# Altium integrated library Linear Technology Power Management System Supervisor, Monitor and Control.IntLib: 1611 symbols (part 84 of 100)
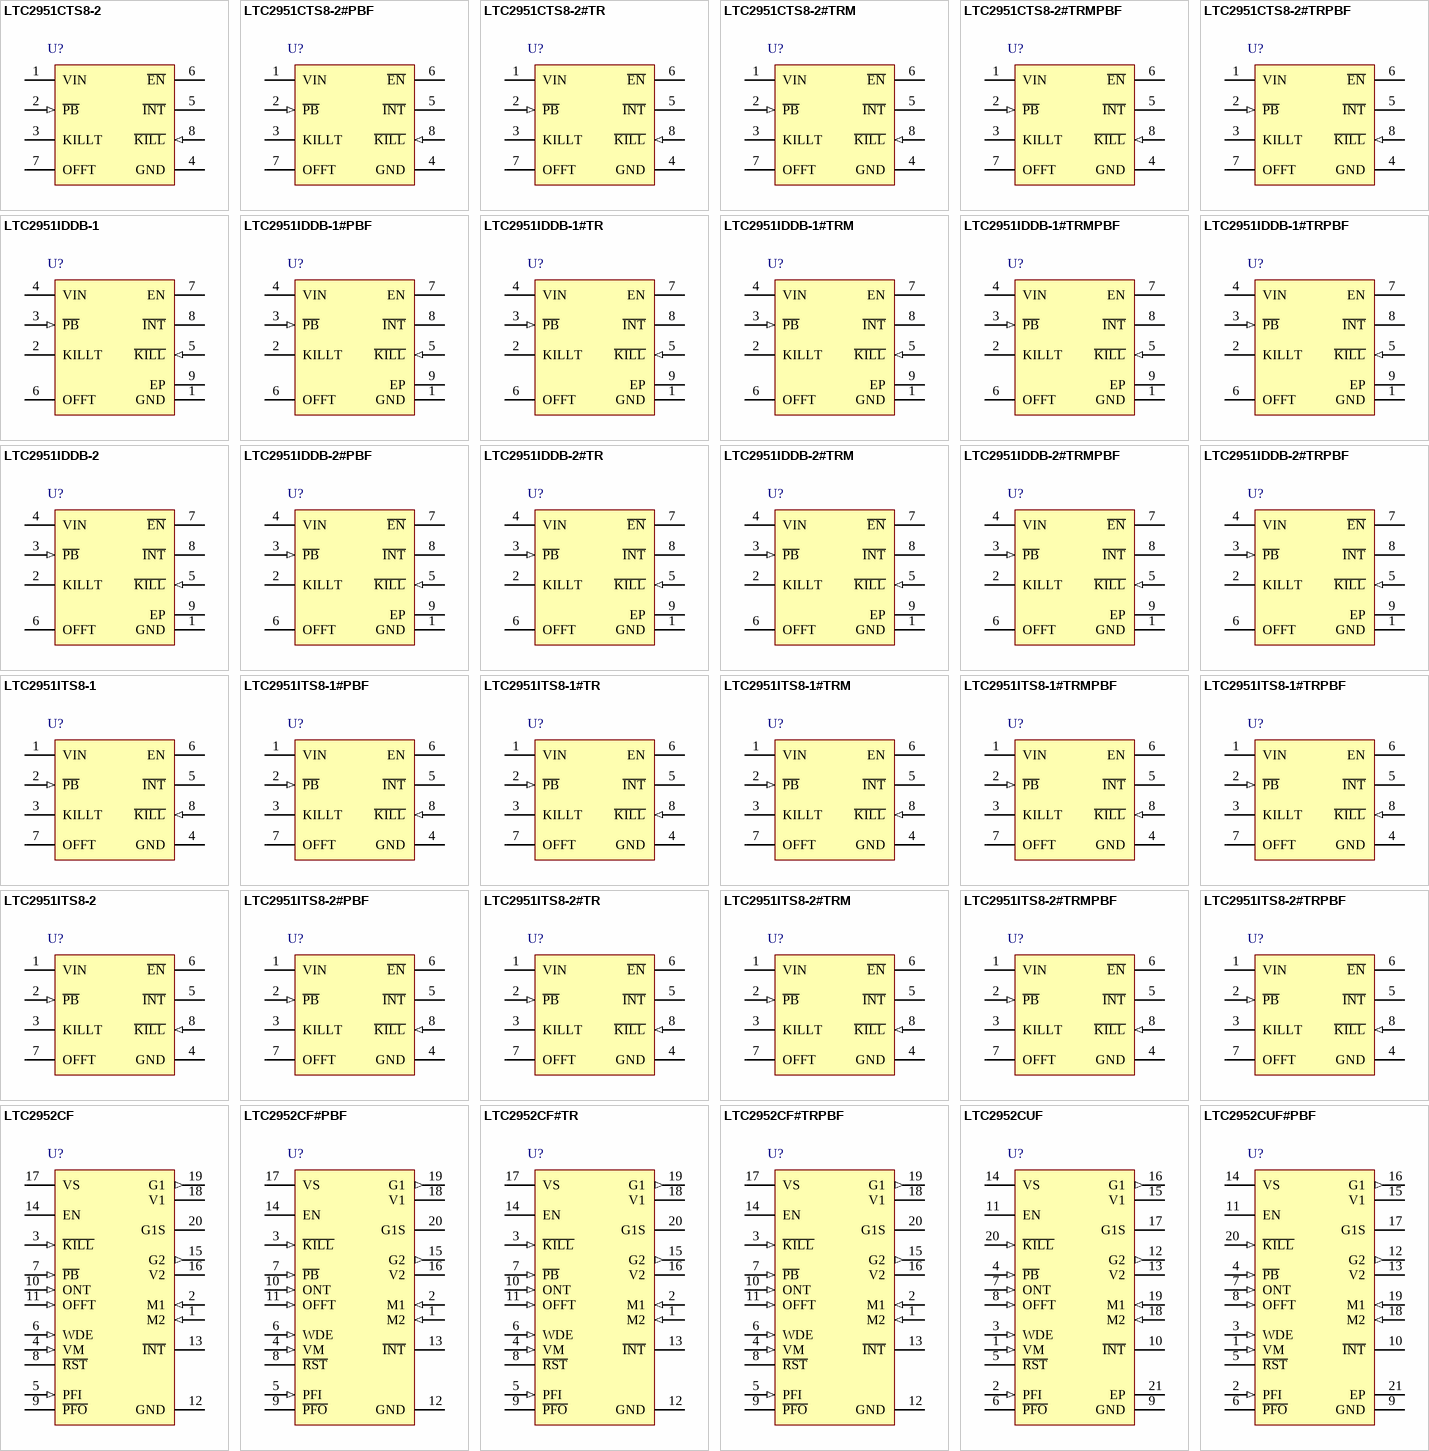
[diagram p128: symbols LTC2951CTS8-2 to LTC2952CUF#PBF]

## LTC2951IDDB-1
designator U?
Pushbutton On / Off  Controller, 8-pin SON (DDB-8), -40 to 85 degC; Manufacturer: Linear Technology; PartNumber: LTC2951IDDB-1; Number of Supplies(#): 1; DatasheetVersion: Rev. B; PackageVersion: Rev. B, 06/2010; PackageReference: DDB-8; PackageDescription: 8-Pin Plastic DFN, Body 3 x 2 mm, Pitch 0.5 mm; RoHS: FALSE; Mounting Technology: Surface Mount; Code_JEDEC: MO-229; ComponentLink1Description: Manufacturer URL; ComponentLink1URL: http://www.linear.com/; ComponentLink2Description: Datasheet; ComponentLink2URL: http://cds.linear.com/docs/en/datasheet/295112fb.pdf; ComponentLink3Description: Package Specification; ComponentLink3URL: http://cds.linear.com/docs/en/packaging/DFN_8_05-08-1702.pdf
footprint LT-DDB-8_V (SON, 8-Leads, Body 3x2mm, Pitch 0.5mm, Thermal Pad 2.2x0.61mm)
pins: 1 GND (power) "Device Ground.", 2 KILLT "Additional, Adjustable K\I\L\L\ Turn-Off Delay Input (tK\I\L\L\, OFF DELAY, ADDITIONAL). A capacitor to ground provides additional delay time (beyond the internal default 128ms, tK\I\L\L\, OFF DELAY) from I\N\T\ falling to (See Datasheet)", 3 ~{PB} (in) "Pushbutton Input. Connecting P\B\ to ground through a momentary switch provides on/off control via the EN/E\N\ pin. An internal 100k pull-up resistor connects to an internal 1.9V bias voltage. The rugged P\B\ input can be (See Datasheet)", 4 VIN (power) "Power Supply Input: 2.7V to 26.4V.", 5 ~{KILL} (in) "K\I\L\L\ Input. Forcing K\I\L\L\ low releases the enable output. During system turn-on, this pin is blanked by a 512ms internal timer (tK\I\L\L\, ON BLANK) to allow the system to pull K\I\L\L\ high. This pin has an accurate (See Datasheet)", 6 OFFT "Additional Adjustable Turn-Off Time Input (tOFFT). A capacitor to ground determines the additional time (beyond the internal default 32ms, tDB, OFF) that the P\B\ pin must be held low before initiating a powerdown sequence (See Datasheet)", 7 EN (oc) "Open-Drain Enable Output. This pin is intended to enable system power. E\N\ is asserted low after a valid P\B\ turn-on event (tDB, ON). E\N\ releases high if: a) K\I\L\L\ is not driven high within 512ms of the initial valid (See Datasheet)", 8 ~{INT} (oc) "Open-Drain Interrupt Output. After a pushbutton turn-off event is detected (tDB, OFF + tOFFT), the LTC2951 interrupts the system (uP) by bringing the I\N\T\ pin low. Once the system finishes its power-down and housekeeping (See Datasheet)", 9 EP "Exposed Pad may be left open or connected to device ground."

## LTC2951IDDB-1#PBF
designator U?
Pushbutton On / Off  Controller, 8-pin SON (DDB-8), -40 to 85 degC, Pb-Free; Manufacturer: Linear Technology; PartNumber: LTC2951IDDB-1#PBF; Number of Supplies(#): 1; DatasheetVersion: Rev. B; PackageVersion: Rev. B, 06/2010; PackageReference: DDB-8; PackageDescription: 8-Pin Plastic DFN, Body 3 x 2 mm, Pitch 0.5 mm; RoHS: TRUE; Mounting Technology: Surface Mount; Code_JEDEC: MO-229; ComponentLink1Description: Manufacturer URL; ComponentLink1URL: http://www.linear.com/; ComponentLink2Description: Datasheet; ComponentLink2URL: http://cds.linear.com/docs/en/datasheet/295112fb.pdf; ComponentLink3Description: Package Specification; ComponentLink3URL: http://cds.linear.com/docs/en/packaging/DFN_8_05-08-1702.pdf
footprint LT-DDB-8_V (SON, 8-Leads, Body 3x2mm, Pitch 0.5mm, Thermal Pad 2.2x0.61mm)
pins: 1 GND (power) "Device Ground.", 2 KILLT "Additional, Adjustable K\I\L\L\ Turn-Off Delay Input (tK\I\L\L\, OFF DELAY, ADDITIONAL). A capacitor to ground provides additional delay time (beyond the internal default 128ms, tK\I\L\L\, OFF DELAY) from I\N\T\ falling to (See Datasheet)", 3 ~{PB} (in) "Pushbutton Input. Connecting P\B\ to ground through a momentary switch provides on/off control via the EN/E\N\ pin. An internal 100k pull-up resistor connects to an internal 1.9V bias voltage. The rugged P\B\ input can be (See Datasheet)", 4 VIN (power) "Power Supply Input: 2.7V to 26.4V.", 5 ~{KILL} (in) "K\I\L\L\ Input. Forcing K\I\L\L\ low releases the enable output. During system turn-on, this pin is blanked by a 512ms internal timer (tK\I\L\L\, ON BLANK) to allow the system to pull K\I\L\L\ high. This pin has an accurate (See Datasheet)", 6 OFFT "Additional Adjustable Turn-Off Time Input (tOFFT). A capacitor to ground determines the additional time (beyond the internal default 32ms, tDB, OFF) that the P\B\ pin must be held low before initiating a powerdown sequence (See Datasheet)", 7 EN (oc) "Open-Drain Enable Output. This pin is intended to enable system power. E\N\ is asserted low after a valid P\B\ turn-on event (tDB, ON). E\N\ releases high if: a) K\I\L\L\ is not driven high within 512ms of the initial valid (See Datasheet)", 8 ~{INT} (oc) "Open-Drain Interrupt Output. After a pushbutton turn-off event is detected (tDB, OFF + tOFFT), the LTC2951 interrupts the system (uP) by bringing the I\N\T\ pin low. Once the system finishes its power-down and housekeeping (See Datasheet)", 9 EP "Exposed Pad may be left open or connected to device ground."

## LTC2951IDDB-1#TR
designator U?
Pushbutton On / Off  Controller, 8-pin SON (DDB-8), -40 to 85 degC, Tape and Reel; Manufacturer: Linear Technology; PartNumber: LTC2951IDDB-1#TR; Number of Supplies(#): 1; DatasheetVersion: Rev. B; PackageVersion: Rev. B, 06/2010; PackageReference: DDB-8; PackageDescription: 8-Pin Plastic DFN, Body 3 x 2 mm, Pitch 0.5 mm; Packing: Tape and Reel; RoHS: FALSE; Mounting Technology: Surface Mount; Code_JEDEC: MO-229; ComponentLink1Description: Manufacturer URL; ComponentLink1URL: http://www.linear.com/; ComponentLink2Description: Datasheet; ComponentLink2URL: http://cds.linear.com/docs/en/datasheet/295112fb.pdf; ComponentLink3Description: Package Specification; ComponentLink3URL: http://cds.linear.com/docs/en/packaging/DFN_8_05-08-1702.pdf
footprint LT-DDB-8_V (SON, 8-Leads, Body 3x2mm, Pitch 0.5mm, Thermal Pad 2.2x0.61mm)
pins: 1 GND (power) "Device Ground.", 2 KILLT "Additional, Adjustable K\I\L\L\ Turn-Off Delay Input (tK\I\L\L\, OFF DELAY, ADDITIONAL). A capacitor to ground provides additional delay time (beyond the internal default 128ms, tK\I\L\L\, OFF DELAY) from I\N\T\ falling to (See Datasheet)", 3 ~{PB} (in) "Pushbutton Input. Connecting P\B\ to ground through a momentary switch provides on/off control via the EN/E\N\ pin. An internal 100k pull-up resistor connects to an internal 1.9V bias voltage. The rugged P\B\ input can be (See Datasheet)", 4 VIN (power) "Power Supply Input: 2.7V to 26.4V.", 5 ~{KILL} (in) "K\I\L\L\ Input. Forcing K\I\L\L\ low releases the enable output. During system turn-on, this pin is blanked by a 512ms internal timer (tK\I\L\L\, ON BLANK) to allow the system to pull K\I\L\L\ high. This pin has an accurate (See Datasheet)", 6 OFFT "Additional Adjustable Turn-Off Time Input (tOFFT). A capacitor to ground determines the additional time (beyond the internal default 32ms, tDB, OFF) that the P\B\ pin must be held low before initiating a powerdown sequence (See Datasheet)", 7 EN (oc) "Open-Drain Enable Output. This pin is intended to enable system power. E\N\ is asserted low after a valid P\B\ turn-on event (tDB, ON). E\N\ releases high if: a) K\I\L\L\ is not driven high within 512ms of the initial valid (See Datasheet)", 8 ~{INT} (oc) "Open-Drain Interrupt Output. After a pushbutton turn-off event is detected (tDB, OFF + tOFFT), the LTC2951 interrupts the system (uP) by bringing the I\N\T\ pin low. Once the system finishes its power-down and housekeeping (See Datasheet)", 9 EP "Exposed Pad may be left open or connected to device ground."

## LTC2951IDDB-1#TRM
designator U?
Pushbutton On / Off  Controller, 8-pin SON (DDB-8), -40 to 85 degC, Mini Tape and Reel; Manufacturer: Linear Technology; PartNumber: LTC2951IDDB-1#TRM; Number of Supplies(#): 1; DatasheetVersion: Rev. B; PackageVersion: Rev. B, 06/2010; PackageReference: DDB-8; PackageDescription: 8-Pin Plastic DFN, Body 3 x 2 mm, Pitch 0.5 mm; Packing: Mini Tape and Reel; RoHS: FALSE; Mounting Technology: Surface Mount; Code_JEDEC: MO-229; ComponentLink1Description: Manufacturer URL; ComponentLink1URL: http://www.linear.com/; ComponentLink2Description: Datasheet; ComponentLink2URL: http://cds.linear.com/docs/en/datasheet/295112fb.pdf; ComponentLink3Description: Package Specification; ComponentLink3URL: http://cds.linear.com/docs/en/packaging/DFN_8_05-08-1702.pdf
footprint LT-DDB-8_V (SON, 8-Leads, Body 3x2mm, Pitch 0.5mm, Thermal Pad 2.2x0.61mm)
pins: 1 GND (power) "Device Ground.", 2 KILLT "Additional, Adjustable K\I\L\L\ Turn-Off Delay Input (tK\I\L\L\, OFF DELAY, ADDITIONAL). A capacitor to ground provides additional delay time (beyond the internal default 128ms, tK\I\L\L\, OFF DELAY) from I\N\T\ falling to (See Datasheet)", 3 ~{PB} (in) "Pushbutton Input. Connecting P\B\ to ground through a momentary switch provides on/off control via the EN/E\N\ pin. An internal 100k pull-up resistor connects to an internal 1.9V bias voltage. The rugged P\B\ input can be (See Datasheet)", 4 VIN (power) "Power Supply Input: 2.7V to 26.4V.", 5 ~{KILL} (in) "K\I\L\L\ Input. Forcing K\I\L\L\ low releases the enable output. During system turn-on, this pin is blanked by a 512ms internal timer (tK\I\L\L\, ON BLANK) to allow the system to pull K\I\L\L\ high. This pin has an accurate (See Datasheet)", 6 OFFT "Additional Adjustable Turn-Off Time Input (tOFFT). A capacitor to ground determines the additional time (beyond the internal default 32ms, tDB, OFF) that the P\B\ pin must be held low before initiating a powerdown sequence (See Datasheet)", 7 EN (oc) "Open-Drain Enable Output. This pin is intended to enable system power. E\N\ is asserted low after a valid P\B\ turn-on event (tDB, ON). E\N\ releases high if: a) K\I\L\L\ is not driven high within 512ms of the initial valid (See Datasheet)", 8 ~{INT} (oc) "Open-Drain Interrupt Output. After a pushbutton turn-off event is detected (tDB, OFF + tOFFT), the LTC2951 interrupts the system (uP) by bringing the I\N\T\ pin low. Once the system finishes its power-down and housekeeping (See Datasheet)", 9 EP "Exposed Pad may be left open or connected to device ground."

## LTC2951IDDB-1#TRMPBF
designator U?
Pushbutton On / Off  Controller, 8-pin SON (DDB-8), -40 to 85 degC, Pb-Free, Mini Tape and Reel; Manufacturer: Linear Technology; PartNumber: LTC2951IDDB-1#TRMPBF; Number of Supplies(#): 1; DatasheetVersion: Rev. B; PackageVersion: Rev. B, 06/2010; PackageReference: DDB-8; PackageDescription: 8-Pin Plastic DFN, Body 3 x 2 mm, Pitch 0.5 mm; Supplier 1: Digi-Key; Supplier Part Number 1: LTC2951IDDB-1#TRMPBFTR-ND; Supplier 2: Digi-Key; Supplier Part Number 2: LTC2951IDDB-1#TRMPBFCT-ND; Supplier 3: Digi-Key; Supplier Part Number 3: LTC2951IDDB-1#TRMPBFDKR-ND; Supplier 4: Farnell; Supplier Part Number 4: 1673546; Supplier 5: Newark; Supplier Part Number 5: 12P6561; Packing: Mini Tape and Reel; RoHS: TRUE; Mounting Technology: Surface Mount; Code_JEDEC: MO-229; ComponentLink1Description: Manufacturer URL; ComponentLink1URL: http://www.linear.com/; ComponentLink2Description: Datasheet; ComponentLink2URL: http://cds.linear.com/docs/en/datasheet/295112fb.pdf; ComponentLink3Description: Package Specification; ComponentLink3URL: http://cds.linear.com/docs/en/packaging/DFN_8_05-08-1702.pdf
footprint LT-DDB-8_V (SON, 8-Leads, Body 3x2mm, Pitch 0.5mm, Thermal Pad 2.2x0.61mm)
pins: 1 GND (power) "Device Ground.", 2 KILLT "Additional, Adjustable K\I\L\L\ Turn-Off Delay Input (tK\I\L\L\, OFF DELAY, ADDITIONAL). A capacitor to ground provides additional delay time (beyond the internal default 128ms, tK\I\L\L\, OFF DELAY) from I\N\T\ falling to (See Datasheet)", 3 ~{PB} (in) "Pushbutton Input. Connecting P\B\ to ground through a momentary switch provides on/off control via the EN/E\N\ pin. An internal 100k pull-up resistor connects to an internal 1.9V bias voltage. The rugged P\B\ input can be (See Datasheet)", 4 VIN (power) "Power Supply Input: 2.7V to 26.4V.", 5 ~{KILL} (in) "K\I\L\L\ Input. Forcing K\I\L\L\ low releases the enable output. During system turn-on, this pin is blanked by a 512ms internal timer (tK\I\L\L\, ON BLANK) to allow the system to pull K\I\L\L\ high. This pin has an accurate (See Datasheet)", 6 OFFT "Additional Adjustable Turn-Off Time Input (tOFFT). A capacitor to ground determines the additional time (beyond the internal default 32ms, tDB, OFF) that the P\B\ pin must be held low before initiating a powerdown sequence (See Datasheet)", 7 EN (oc) "Open-Drain Enable Output. This pin is intended to enable system power. E\N\ is asserted low after a valid P\B\ turn-on event (tDB, ON). E\N\ releases high if: a) K\I\L\L\ is not driven high within 512ms of the initial valid (See Datasheet)", 8 ~{INT} (oc) "Open-Drain Interrupt Output. After a pushbutton turn-off event is detected (tDB, OFF + tOFFT), the LTC2951 interrupts the system (uP) by bringing the I\N\T\ pin low. Once the system finishes its power-down and housekeeping (See Datasheet)", 9 EP "Exposed Pad may be left open or connected to device ground."

## LTC2951IDDB-1#TRPBF
designator U?
Pushbutton On / Off  Controller, 8-pin SON (DDB-8), -40 to 85 degC, Pb-Free, Tape and Reel; Manufacturer: Linear Technology; PartNumber: LTC2951IDDB-1#TRPBF; Number of Supplies(#): 1; DatasheetVersion: Rev. B; PackageVersion: Rev. B, 06/2010; PackageReference: DDB-8; PackageDescription: 8-Pin Plastic DFN, Body 3 x 2 mm, Pitch 0.5 mm; Supplier 1: Digi-Key; Supplier Part Number 1: LTC2951IDDB-1#TRPBF-ND; Packing: Tape and Reel; RoHS: TRUE; Mounting Technology: Surface Mount; Code_JEDEC: MO-229; ComponentLink1Description: Manufacturer URL; ComponentLink1URL: http://www.linear.com/; ComponentLink2Description: Datasheet; ComponentLink2URL: http://cds.linear.com/docs/en/datasheet/295112fb.pdf; ComponentLink3Description: Package Specification; ComponentLink3URL: http://cds.linear.com/docs/en/packaging/DFN_8_05-08-1702.pdf
footprint LT-DDB-8_V (SON, 8-Leads, Body 3x2mm, Pitch 0.5mm, Thermal Pad 2.2x0.61mm)
pins: 1 GND (power) "Device Ground.", 2 KILLT "Additional, Adjustable K\I\L\L\ Turn-Off Delay Input (tK\I\L\L\, OFF DELAY, ADDITIONAL). A capacitor to ground provides additional delay time (beyond the internal default 128ms, tK\I\L\L\, OFF DELAY) from I\N\T\ falling to (See Datasheet)", 3 ~{PB} (in) "Pushbutton Input. Connecting P\B\ to ground through a momentary switch provides on/off control via the EN/E\N\ pin. An internal 100k pull-up resistor connects to an internal 1.9V bias voltage. The rugged P\B\ input can be (See Datasheet)", 4 VIN (power) "Power Supply Input: 2.7V to 26.4V.", 5 ~{KILL} (in) "K\I\L\L\ Input. Forcing K\I\L\L\ low releases the enable output. During system turn-on, this pin is blanked by a 512ms internal timer (tK\I\L\L\, ON BLANK) to allow the system to pull K\I\L\L\ high. This pin has an accurate (See Datasheet)", 6 OFFT "Additional Adjustable Turn-Off Time Input (tOFFT). A capacitor to ground determines the additional time (beyond the internal default 32ms, tDB, OFF) that the P\B\ pin must be held low before initiating a powerdown sequence (See Datasheet)", 7 EN (oc) "Open-Drain Enable Output. This pin is intended to enable system power. E\N\ is asserted low after a valid P\B\ turn-on event (tDB, ON). E\N\ releases high if: a) K\I\L\L\ is not driven high within 512ms of the initial valid (See Datasheet)", 8 ~{INT} (oc) "Open-Drain Interrupt Output. After a pushbutton turn-off event is detected (tDB, OFF + tOFFT), the LTC2951 interrupts the system (uP) by bringing the I\N\T\ pin low. Once the system finishes its power-down and housekeeping (See Datasheet)", 9 EP "Exposed Pad may be left open or connected to device ground."

## LTC2951IDDB-2
designator U?
Pushbutton On / Off  Controller, 8-pin SON (DDB-8), -40 to 85 degC; Manufacturer: Linear Technology; PartNumber: LTC2951IDDB-2; Number of Supplies(#): 1; DatasheetVersion: Rev. B; PackageVersion: Rev. B, 06/2010; PackageReference: DDB-8; PackageDescription: 8-Pin Plastic DFN, Body 3 x 2 mm, Pitch 0.5 mm; RoHS: FALSE; Mounting Technology: Surface Mount; Code_JEDEC: MO-229; ComponentLink1Description: Manufacturer URL; ComponentLink1URL: http://www.linear.com/; ComponentLink2Description: Datasheet; ComponentLink2URL: http://cds.linear.com/docs/en/datasheet/295112fb.pdf; ComponentLink3Description: Package Specification; ComponentLink3URL: http://cds.linear.com/docs/en/packaging/DFN_8_05-08-1702.pdf
footprint LT-DDB-8_V (SON, 8-Leads, Body 3x2mm, Pitch 0.5mm, Thermal Pad 2.2x0.61mm)
pins: 1 GND (power) "Device Ground.", 2 KILLT "Additional, Adjustable K\I\L\L\ Turn-Off Delay Input (tK\I\L\L\, OFF DELAY, ADDITIONAL). A capacitor to ground provides additional delay time (beyond the internal default 128ms, tK\I\L\L\, OFF DELAY) from I\N\T\ falling to (See Datasheet)", 3 ~{PB} (in) "Pushbutton Input. Connecting P\B\ to ground through a momentary switch provides on/off control via the EN/E\N\ pin. An internal 100k pull-up resistor connects to an internal 1.9V bias voltage. The rugged P\B\ input can be (See Datasheet)", 4 VIN (power) "Power Supply Input: 2.7V to 26.4V.", 5 ~{KILL} (in) "K\I\L\L\ Input. Forcing K\I\L\L\ low releases the enable output. During system turn-on, this pin is blanked by a 512ms internal timer (tK\I\L\L\, ON BLANK) to allow the system to pull K\I\L\L\ high. This pin has an accurate (See Datasheet)", 6 OFFT "Additional Adjustable Turn-Off Time Input (tOFFT). A capacitor to ground determines the additional time (beyond the internal default 32ms, tDB, OFF) that the P\B\ pin must be held low before initiating a powerdown sequence (See Datasheet)", 7 ~{EN} (oc) "Open-Drain Enable Output. This pin is intended to enable system power. E\N\ is asserted low after a valid P\B\ turn-on event (tDB, ON). E\N\ releases high if: a) K\I\L\L\ is not driven high within 512ms of the initial valid (See Datasheet)", 8 ~{INT} (oc) "Open-Drain Interrupt Output. After a pushbutton turn-off event is detected (tDB, OFF + tOFFT), the LTC2951 interrupts the system (uP) by bringing the I\N\T\ pin low. Once the system finishes its power-down and housekeeping (See Datasheet)", 9 EP "Exposed Pad may be left open or connected to device ground."

## LTC2951IDDB-2#PBF
designator U?
Pushbutton On / Off  Controller, 8-pin SON (DDB-8), -40 to 85 degC, Pb-Free; Manufacturer: Linear Technology; PartNumber: LTC2951IDDB-2#PBF; Number of Supplies(#): 1; DatasheetVersion: Rev. B; PackageVersion: Rev. B, 06/2010; PackageReference: DDB-8; PackageDescription: 8-Pin Plastic DFN, Body 3 x 2 mm, Pitch 0.5 mm; RoHS: TRUE; Mounting Technology: Surface Mount; Code_JEDEC: MO-229; ComponentLink1Description: Manufacturer URL; ComponentLink1URL: http://www.linear.com/; ComponentLink2Description: Datasheet; ComponentLink2URL: http://cds.linear.com/docs/en/datasheet/295112fb.pdf; ComponentLink3Description: Package Specification; ComponentLink3URL: http://cds.linear.com/docs/en/packaging/DFN_8_05-08-1702.pdf
footprint LT-DDB-8_V (SON, 8-Leads, Body 3x2mm, Pitch 0.5mm, Thermal Pad 2.2x0.61mm)
pins: 1 GND (power) "Device Ground.", 2 KILLT "Additional, Adjustable K\I\L\L\ Turn-Off Delay Input (tK\I\L\L\, OFF DELAY, ADDITIONAL). A capacitor to ground provides additional delay time (beyond the internal default 128ms, tK\I\L\L\, OFF DELAY) from I\N\T\ falling to (See Datasheet)", 3 ~{PB} (in) "Pushbutton Input. Connecting P\B\ to ground through a momentary switch provides on/off control via the EN/E\N\ pin. An internal 100k pull-up resistor connects to an internal 1.9V bias voltage. The rugged P\B\ input can be (See Datasheet)", 4 VIN (power) "Power Supply Input: 2.7V to 26.4V.", 5 ~{KILL} (in) "K\I\L\L\ Input. Forcing K\I\L\L\ low releases the enable output. During system turn-on, this pin is blanked by a 512ms internal timer (tK\I\L\L\, ON BLANK) to allow the system to pull K\I\L\L\ high. This pin has an accurate (See Datasheet)", 6 OFFT "Additional Adjustable Turn-Off Time Input (tOFFT). A capacitor to ground determines the additional time (beyond the internal default 32ms, tDB, OFF) that the P\B\ pin must be held low before initiating a powerdown sequence (See Datasheet)", 7 ~{EN} (oc) "Open-Drain Enable Output. This pin is intended to enable system power. E\N\ is asserted low after a valid P\B\ turn-on event (tDB, ON). E\N\ releases high if: a) K\I\L\L\ is not driven high within 512ms of the initial valid (See Datasheet)", 8 ~{INT} (oc) "Open-Drain Interrupt Output. After a pushbutton turn-off event is detected (tDB, OFF + tOFFT), the LTC2951 interrupts the system (uP) by bringing the I\N\T\ pin low. Once the system finishes its power-down and housekeeping (See Datasheet)", 9 EP "Exposed Pad may be left open or connected to device ground."

## LTC2951IDDB-2#TR
designator U?
Pushbutton On / Off  Controller, 8-pin SON (DDB-8), -40 to 85 degC, Tape and Reel; Manufacturer: Linear Technology; PartNumber: LTC2951IDDB-2#TR; Number of Supplies(#): 1; DatasheetVersion: Rev. B; PackageVersion: Rev. B, 06/2010; PackageReference: DDB-8; PackageDescription: 8-Pin Plastic DFN, Body 3 x 2 mm, Pitch 0.5 mm; Packing: Tape and Reel; RoHS: FALSE; Mounting Technology: Surface Mount; Code_JEDEC: MO-229; ComponentLink1Description: Manufacturer URL; ComponentLink1URL: http://www.linear.com/; ComponentLink2Description: Datasheet; ComponentLink2URL: http://cds.linear.com/docs/en/datasheet/295112fb.pdf; ComponentLink3Description: Package Specification; ComponentLink3URL: http://cds.linear.com/docs/en/packaging/DFN_8_05-08-1702.pdf
footprint LT-DDB-8_V (SON, 8-Leads, Body 3x2mm, Pitch 0.5mm, Thermal Pad 2.2x0.61mm)
pins: 1 GND (power) "Device Ground.", 2 KILLT "Additional, Adjustable K\I\L\L\ Turn-Off Delay Input (tK\I\L\L\, OFF DELAY, ADDITIONAL). A capacitor to ground provides additional delay time (beyond the internal default 128ms, tK\I\L\L\, OFF DELAY) from I\N\T\ falling to (See Datasheet)", 3 ~{PB} (in) "Pushbutton Input. Connecting P\B\ to ground through a momentary switch provides on/off control via the EN/E\N\ pin. An internal 100k pull-up resistor connects to an internal 1.9V bias voltage. The rugged P\B\ input can be (See Datasheet)", 4 VIN (power) "Power Supply Input: 2.7V to 26.4V.", 5 ~{KILL} (in) "K\I\L\L\ Input. Forcing K\I\L\L\ low releases the enable output. During system turn-on, this pin is blanked by a 512ms internal timer (tK\I\L\L\, ON BLANK) to allow the system to pull K\I\L\L\ high. This pin has an accurate (See Datasheet)", 6 OFFT "Additional Adjustable Turn-Off Time Input (tOFFT). A capacitor to ground determines the additional time (beyond the internal default 32ms, tDB, OFF) that the P\B\ pin must be held low before initiating a powerdown sequence (See Datasheet)", 7 ~{EN} (oc) "Open-Drain Enable Output. This pin is intended to enable system power. E\N\ is asserted low after a valid P\B\ turn-on event (tDB, ON). E\N\ releases high if: a) K\I\L\L\ is not driven high within 512ms of the initial valid (See Datasheet)", 8 ~{INT} (oc) "Open-Drain Interrupt Output. After a pushbutton turn-off event is detected (tDB, OFF + tOFFT), the LTC2951 interrupts the system (uP) by bringing the I\N\T\ pin low. Once the system finishes its power-down and housekeeping (See Datasheet)", 9 EP "Exposed Pad may be left open or connected to device ground."

## LTC2951IDDB-2#TRM
designator U?
Pushbutton On / Off  Controller, 8-pin SON (DDB-8), -40 to 85 degC, Mini Tape and Reel; Manufacturer: Linear Technology; PartNumber: LTC2951IDDB-2#TRM; Number of Supplies(#): 1; DatasheetVersion: Rev. B; PackageVersion: Rev. B, 06/2010; PackageReference: DDB-8; PackageDescription: 8-Pin Plastic DFN, Body 3 x 2 mm, Pitch 0.5 mm; Packing: Mini Tape and Reel; RoHS: FALSE; Mounting Technology: Surface Mount; Code_JEDEC: MO-229; ComponentLink1Description: Manufacturer URL; ComponentLink1URL: http://www.linear.com/; ComponentLink2Description: Datasheet; ComponentLink2URL: http://cds.linear.com/docs/en/datasheet/295112fb.pdf; ComponentLink3Description: Package Specification; ComponentLink3URL: http://cds.linear.com/docs/en/packaging/DFN_8_05-08-1702.pdf
footprint LT-DDB-8_V (SON, 8-Leads, Body 3x2mm, Pitch 0.5mm, Thermal Pad 2.2x0.61mm)
pins: 1 GND (power) "Device Ground.", 2 KILLT "Additional, Adjustable K\I\L\L\ Turn-Off Delay Input (tK\I\L\L\, OFF DELAY, ADDITIONAL). A capacitor to ground provides additional delay time (beyond the internal default 128ms, tK\I\L\L\, OFF DELAY) from I\N\T\ falling to (See Datasheet)", 3 ~{PB} (in) "Pushbutton Input. Connecting P\B\ to ground through a momentary switch provides on/off control via the EN/E\N\ pin. An internal 100k pull-up resistor connects to an internal 1.9V bias voltage. The rugged P\B\ input can be (See Datasheet)", 4 VIN (power) "Power Supply Input: 2.7V to 26.4V.", 5 ~{KILL} (in) "K\I\L\L\ Input. Forcing K\I\L\L\ low releases the enable output. During system turn-on, this pin is blanked by a 512ms internal timer (tK\I\L\L\, ON BLANK) to allow the system to pull K\I\L\L\ high. This pin has an accurate (See Datasheet)", 6 OFFT "Additional Adjustable Turn-Off Time Input (tOFFT). A capacitor to ground determines the additional time (beyond the internal default 32ms, tDB, OFF) that the P\B\ pin must be held low before initiating a powerdown sequence (See Datasheet)", 7 ~{EN} (oc) "Open-Drain Enable Output. This pin is intended to enable system power. E\N\ is asserted low after a valid P\B\ turn-on event (tDB, ON). E\N\ releases high if: a) K\I\L\L\ is not driven high within 512ms of the initial valid (See Datasheet)", 8 ~{INT} (oc) "Open-Drain Interrupt Output. After a pushbutton turn-off event is detected (tDB, OFF + tOFFT), the LTC2951 interrupts the system (uP) by bringing the I\N\T\ pin low. Once the system finishes its power-down and housekeeping (See Datasheet)", 9 EP "Exposed Pad may be left open or connected to device ground."

## LTC2951IDDB-2#TRMPBF
designator U?
Pushbutton On / Off  Controller, 8-pin SON (DDB-8), -40 to 85 degC, Pb-Free, Mini Tape and Reel; Manufacturer: Linear Technology; PartNumber: LTC2951IDDB-2#TRMPBF; Number of Supplies(#): 1; DatasheetVersion: Rev. B; PackageVersion: Rev. B, 06/2010; PackageReference: DDB-8; PackageDescription: 8-Pin Plastic DFN, Body 3 x 2 mm, Pitch 0.5 mm; Supplier 1: Digi-Key; Supplier Part Number 1: LTC2951IDDB-2#TRMPBFTR-ND; Supplier 2: Digi-Key; Supplier Part Number 2: LTC2951IDDB-2#TRMPBFCT-ND; Supplier 3: Digi-Key; Supplier Part Number 3: LTC2951IDDB-2#TRMPBFDKR-ND; Supplier 4: Farnell; Supplier Part Number 4: 1673547; Supplier 5: Newark; Supplier Part Number 5: 12P6562; Packing: Mini Tape and Reel; RoHS: TRUE; Mounting Technology: Surface Mount; Code_JEDEC: MO-229; ComponentLink1Description: Manufacturer URL; ComponentLink1URL: http://www.linear.com/; ComponentLink2Description: Datasheet; ComponentLink2URL: http://cds.linear.com/docs/en/datasheet/295112fb.pdf; ComponentLink3Description: Package Specification; ComponentLink3URL: http://cds.linear.com/docs/en/packaging/DFN_8_05-08-1702.pdf
footprint LT-DDB-8_V (SON, 8-Leads, Body 3x2mm, Pitch 0.5mm, Thermal Pad 2.2x0.61mm)
pins: 1 GND (power) "Device Ground.", 2 KILLT "Additional, Adjustable K\I\L\L\ Turn-Off Delay Input (tK\I\L\L\, OFF DELAY, ADDITIONAL). A capacitor to ground provides additional delay time (beyond the internal default 128ms, tK\I\L\L\, OFF DELAY) from I\N\T\ falling to (See Datasheet)", 3 ~{PB} (in) "Pushbutton Input. Connecting P\B\ to ground through a momentary switch provides on/off control via the EN/E\N\ pin. An internal 100k pull-up resistor connects to an internal 1.9V bias voltage. The rugged P\B\ input can be (See Datasheet)", 4 VIN (power) "Power Supply Input: 2.7V to 26.4V.", 5 ~{KILL} (in) "K\I\L\L\ Input. Forcing K\I\L\L\ low releases the enable output. During system turn-on, this pin is blanked by a 512ms internal timer (tK\I\L\L\, ON BLANK) to allow the system to pull K\I\L\L\ high. This pin has an accurate (See Datasheet)", 6 OFFT "Additional Adjustable Turn-Off Time Input (tOFFT). A capacitor to ground determines the additional time (beyond the internal default 32ms, tDB, OFF) that the P\B\ pin must be held low before initiating a powerdown sequence (See Datasheet)", 7 ~{EN} (oc) "Open-Drain Enable Output. This pin is intended to enable system power. E\N\ is asserted low after a valid P\B\ turn-on event (tDB, ON). E\N\ releases high if: a) K\I\L\L\ is not driven high within 512ms of the initial valid (See Datasheet)", 8 ~{INT} (oc) "Open-Drain Interrupt Output. After a pushbutton turn-off event is detected (tDB, OFF + tOFFT), the LTC2951 interrupts the system (uP) by bringing the I\N\T\ pin low. Once the system finishes its power-down and housekeeping (See Datasheet)", 9 EP "Exposed Pad may be left open or connected to device ground."

## LTC2951IDDB-2#TRPBF
designator U?
Pushbutton On / Off  Controller, 8-pin SON (DDB-8), -40 to 85 degC, Pb-Free, Tape and Reel; Manufacturer: Linear Technology; PartNumber: LTC2951IDDB-2#TRPBF; Number of Supplies(#): 1; DatasheetVersion: Rev. B; PackageVersion: Rev. B, 06/2010; PackageReference: DDB-8; PackageDescription: 8-Pin Plastic DFN, Body 3 x 2 mm, Pitch 0.5 mm; Supplier 1: Digi-Key; Supplier Part Number 1: LTC2951IDDB-2#TRPBF-ND; Packing: Tape and Reel; RoHS: TRUE; Mounting Technology: Surface Mount; Code_JEDEC: MO-229; ComponentLink1Description: Manufacturer URL; ComponentLink1URL: http://www.linear.com/; ComponentLink2Description: Datasheet; ComponentLink2URL: http://cds.linear.com/docs/en/datasheet/295112fb.pdf; ComponentLink3Description: Package Specification; ComponentLink3URL: http://cds.linear.com/docs/en/packaging/DFN_8_05-08-1702.pdf
footprint LT-DDB-8_V (SON, 8-Leads, Body 3x2mm, Pitch 0.5mm, Thermal Pad 2.2x0.61mm)
pins: 1 GND (power) "Device Ground.", 2 KILLT "Additional, Adjustable K\I\L\L\ Turn-Off Delay Input (tK\I\L\L\, OFF DELAY, ADDITIONAL). A capacitor to ground provides additional delay time (beyond the internal default 128ms, tK\I\L\L\, OFF DELAY) from I\N\T\ falling to (See Datasheet)", 3 ~{PB} (in) "Pushbutton Input. Connecting P\B\ to ground through a momentary switch provides on/off control via the EN/E\N\ pin. An internal 100k pull-up resistor connects to an internal 1.9V bias voltage. The rugged P\B\ input can be (See Datasheet)", 4 VIN (power) "Power Supply Input: 2.7V to 26.4V.", 5 ~{KILL} (in) "K\I\L\L\ Input. Forcing K\I\L\L\ low releases the enable output. During system turn-on, this pin is blanked by a 512ms internal timer (tK\I\L\L\, ON BLANK) to allow the system to pull K\I\L\L\ high. This pin has an accurate (See Datasheet)", 6 OFFT "Additional Adjustable Turn-Off Time Input (tOFFT). A capacitor to ground determines the additional time (beyond the internal default 32ms, tDB, OFF) that the P\B\ pin must be held low before initiating a powerdown sequence (See Datasheet)", 7 ~{EN} (oc) "Open-Drain Enable Output. This pin is intended to enable system power. E\N\ is asserted low after a valid P\B\ turn-on event (tDB, ON). E\N\ releases high if: a) K\I\L\L\ is not driven high within 512ms of the initial valid (See Datasheet)", 8 ~{INT} (oc) "Open-Drain Interrupt Output. After a pushbutton turn-off event is detected (tDB, OFF + tOFFT), the LTC2951 interrupts the system (uP) by bringing the I\N\T\ pin low. Once the system finishes its power-down and housekeeping (See Datasheet)", 9 EP "Exposed Pad may be left open or connected to device ground."

## LTC2951ITS8-1
designator U?
Pushbutton On / Off  Controller, 8-pin SOT23 (TS8-8), -40 to 85 degC; Manufacturer: Linear Technology; PartNumber: LTC2951ITS8-1; Number of Supplies(#): 1; DatasheetVersion: Rev. B; PackageVersion: Rev. A, 08/2010; PackageReference: TS8-8; PackageDescription: 8-Pin Plastic TSOT-23, Body 2.9 x 1.63 mm, Pitch 0.65 mm; RoHS: FALSE; Mounting Technology: Surface Mount; Code_JEDEC: MO-193; ComponentLink1Description: Manufacturer URL; ComponentLink1URL: http://www.linear.com/; ComponentLink2Description: Datasheet; ComponentLink2URL: http://cds.linear.com/docs/en/datasheet/295112fb.pdf; ComponentLink3Description: Package Specification; ComponentLink3URL: http://cds.linear.com/docs/en/packaging/SOT_8_05-08-1637.pdf
footprint LT-TS8-8-TSOT-23_V (SOT23, 8-Leads, Body 2.9x1.75mm, Pitch 0.65mm)
pins: 1 VIN (power) "Power Supply Input: 2.7V to 26.4V.", 2 ~{PB} (in) "Pushbutton Input. Connecting P\B\ to ground through a momentary switch provides on/off control via the EN/E\N\ pin. An internal 100k pull-up resistor connects to an internal 1.9V bias voltage. The rugged P\B\ input can be (See Datasheet)", 3 KILLT "Additional, Adjustable K\I\L\L\ Turn-Off Delay Input (tK\I\L\L\, OFF DELAY, ADDITIONAL). A capacitor to ground provides additional delay time (beyond the internal default 128ms, tK\I\L\L\, OFF DELAY) from I\N\T\ falling to (See Datasheet)", 4 GND (power) "Device Ground.", 5 ~{INT} (oc) "Open-Drain Interrupt Output. After a pushbutton turn-off event is detected (tDB, OFF + tOFFT), the LTC2951 interrupts the system (uP) by bringing the I\N\T\ pin low. Once the system finishes its power-down and housekeeping (See Datasheet)", 6 EN (oc) "Open-Drain Enable Output. This pin is intended to enable system power. E\N\ is asserted low after a valid P\B\ turn-on event (tDB, ON). E\N\ releases high if: a) K\I\L\L\ is not driven high within 512ms of the initial valid (See Datasheet)", 7 OFFT "Additional Adjustable Turn-Off Time Input (tOFFT). A capacitor to ground determines the additional time (beyond the internal default 32ms, tDB, OFF) that the P\B\ pin must be held low before initiating a powerdown sequence (See Datasheet)", 8 ~{KILL} (in) "K\I\L\L\ Input. Forcing K\I\L\L\ low releases the enable output. During system turn-on, this pin is blanked by a 512ms internal timer (tK\I\L\L\, ON BLANK) to allow the system to pull K\I\L\L\ high. This pin has an accurate (See Datasheet)"

## LTC2951ITS8-1#PBF
designator U?
Pushbutton On / Off  Controller, 8-pin SOT23 (TS8-8), -40 to 85 degC, Pb-Free; Manufacturer: Linear Technology; PartNumber: LTC2951ITS8-1#PBF; Number of Supplies(#): 1; DatasheetVersion: Rev. B; PackageVersion: Rev. A, 08/2010; PackageReference: TS8-8; PackageDescription: 8-Pin Plastic TSOT-23, Body 2.9 x 1.63 mm, Pitch 0.65 mm; Supplier 1: Newark; Supplier Part Number 1: 78T3119; RoHS: TRUE; Mounting Technology: Surface Mount; Code_JEDEC: MO-193; ComponentLink1Description: Manufacturer URL; ComponentLink1URL: http://www.linear.com/; ComponentLink2Description: Datasheet; ComponentLink2URL: http://cds.linear.com/docs/en/datasheet/295112fb.pdf; ComponentLink3Description: Package Specification; ComponentLink3URL: http://cds.linear.com/docs/en/packaging/SOT_8_05-08-1637.pdf
footprint LT-TS8-8-TSOT-23_V (SOT23, 8-Leads, Body 2.9x1.75mm, Pitch 0.65mm)
pins: 1 VIN (power) "Power Supply Input: 2.7V to 26.4V.", 2 ~{PB} (in) "Pushbutton Input. Connecting P\B\ to ground through a momentary switch provides on/off control via the EN/E\N\ pin. An internal 100k pull-up resistor connects to an internal 1.9V bias voltage. The rugged P\B\ input can be (See Datasheet)", 3 KILLT "Additional, Adjustable K\I\L\L\ Turn-Off Delay Input (tK\I\L\L\, OFF DELAY, ADDITIONAL). A capacitor to ground provides additional delay time (beyond the internal default 128ms, tK\I\L\L\, OFF DELAY) from I\N\T\ falling to (See Datasheet)", 4 GND (power) "Device Ground.", 5 ~{INT} (oc) "Open-Drain Interrupt Output. After a pushbutton turn-off event is detected (tDB, OFF + tOFFT), the LTC2951 interrupts the system (uP) by bringing the I\N\T\ pin low. Once the system finishes its power-down and housekeeping (See Datasheet)", 6 EN (oc) "Open-Drain Enable Output. This pin is intended to enable system power. E\N\ is asserted low after a valid P\B\ turn-on event (tDB, ON). E\N\ releases high if: a) K\I\L\L\ is not driven high within 512ms of the initial valid (See Datasheet)", 7 OFFT "Additional Adjustable Turn-Off Time Input (tOFFT). A capacitor to ground determines the additional time (beyond the internal default 32ms, tDB, OFF) that the P\B\ pin must be held low before initiating a powerdown sequence (See Datasheet)", 8 ~{KILL} (in) "K\I\L\L\ Input. Forcing K\I\L\L\ low releases the enable output. During system turn-on, this pin is blanked by a 512ms internal timer (tK\I\L\L\, ON BLANK) to allow the system to pull K\I\L\L\ high. This pin has an accurate (See Datasheet)"

## LTC2951ITS8-1#TR
designator U?
Pushbutton On / Off  Controller, 8-pin SOT23 (TS8-8), -40 to 85 degC, Tape and Reel; Manufacturer: Linear Technology; PartNumber: LTC2951ITS8-1#TR; Number of Supplies(#): 1; DatasheetVersion: Rev. B; PackageVersion: Rev. A, 08/2010; PackageReference: TS8-8; PackageDescription: 8-Pin Plastic TSOT-23, Body 2.9 x 1.63 mm, Pitch 0.65 mm; Packing: Tape and Reel; RoHS: FALSE; Mounting Technology: Surface Mount; Code_JEDEC: MO-193; ComponentLink1Description: Manufacturer URL; ComponentLink1URL: http://www.linear.com/; ComponentLink2Description: Datasheet; ComponentLink2URL: http://cds.linear.com/docs/en/datasheet/295112fb.pdf; ComponentLink3Description: Package Specification; ComponentLink3URL: http://cds.linear.com/docs/en/packaging/SOT_8_05-08-1637.pdf
footprint LT-TS8-8-TSOT-23_V (SOT23, 8-Leads, Body 2.9x1.75mm, Pitch 0.65mm)
pins: 1 VIN (power) "Power Supply Input: 2.7V to 26.4V.", 2 ~{PB} (in) "Pushbutton Input. Connecting P\B\ to ground through a momentary switch provides on/off control via the EN/E\N\ pin. An internal 100k pull-up resistor connects to an internal 1.9V bias voltage. The rugged P\B\ input can be (See Datasheet)", 3 KILLT "Additional, Adjustable K\I\L\L\ Turn-Off Delay Input (tK\I\L\L\, OFF DELAY, ADDITIONAL). A capacitor to ground provides additional delay time (beyond the internal default 128ms, tK\I\L\L\, OFF DELAY) from I\N\T\ falling to (See Datasheet)", 4 GND (power) "Device Ground.", 5 ~{INT} (oc) "Open-Drain Interrupt Output. After a pushbutton turn-off event is detected (tDB, OFF + tOFFT), the LTC2951 interrupts the system (uP) by bringing the I\N\T\ pin low. Once the system finishes its power-down and housekeeping (See Datasheet)", 6 EN (oc) "Open-Drain Enable Output. This pin is intended to enable system power. E\N\ is asserted low after a valid P\B\ turn-on event (tDB, ON). E\N\ releases high if: a) K\I\L\L\ is not driven high within 512ms of the initial valid (See Datasheet)", 7 OFFT "Additional Adjustable Turn-Off Time Input (tOFFT). A capacitor to ground determines the additional time (beyond the internal default 32ms, tDB, OFF) that the P\B\ pin must be held low before initiating a powerdown sequence (See Datasheet)", 8 ~{KILL} (in) "K\I\L\L\ Input. Forcing K\I\L\L\ low releases the enable output. During system turn-on, this pin is blanked by a 512ms internal timer (tK\I\L\L\, ON BLANK) to allow the system to pull K\I\L\L\ high. This pin has an accurate (See Datasheet)"

## LTC2951ITS8-1#TRM
designator U?
Pushbutton On / Off  Controller, 8-pin SOT23 (TS8-8), -40 to 85 degC, Mini Tape and Reel; Manufacturer: Linear Technology; PartNumber: LTC2951ITS8-1#TRM; Number of Supplies(#): 1; DatasheetVersion: Rev. B; PackageVersion: Rev. A, 08/2010; PackageReference: TS8-8; PackageDescription: 8-Pin Plastic TSOT-23, Body 2.9 x 1.63 mm, Pitch 0.65 mm; Packing: Mini Tape and Reel; RoHS: FALSE; Mounting Technology: Surface Mount; Code_JEDEC: MO-193; ComponentLink1Description: Manufacturer URL; ComponentLink1URL: http://www.linear.com/; ComponentLink2Description: Datasheet; ComponentLink2URL: http://cds.linear.com/docs/en/datasheet/295112fb.pdf; ComponentLink3Description: Package Specification; ComponentLink3URL: http://cds.linear.com/docs/en/packaging/SOT_8_05-08-1637.pdf
footprint LT-TS8-8-TSOT-23_V (SOT23, 8-Leads, Body 2.9x1.75mm, Pitch 0.65mm)
pins: 1 VIN (power) "Power Supply Input: 2.7V to 26.4V.", 2 ~{PB} (in) "Pushbutton Input. Connecting P\B\ to ground through a momentary switch provides on/off control via the EN/E\N\ pin. An internal 100k pull-up resistor connects to an internal 1.9V bias voltage. The rugged P\B\ input can be (See Datasheet)", 3 KILLT "Additional, Adjustable K\I\L\L\ Turn-Off Delay Input (tK\I\L\L\, OFF DELAY, ADDITIONAL). A capacitor to ground provides additional delay time (beyond the internal default 128ms, tK\I\L\L\, OFF DELAY) from I\N\T\ falling to (See Datasheet)", 4 GND (power) "Device Ground.", 5 ~{INT} (oc) "Open-Drain Interrupt Output. After a pushbutton turn-off event is detected (tDB, OFF + tOFFT), the LTC2951 interrupts the system (uP) by bringing the I\N\T\ pin low. Once the system finishes its power-down and housekeeping (See Datasheet)", 6 EN (oc) "Open-Drain Enable Output. This pin is intended to enable system power. E\N\ is asserted low after a valid P\B\ turn-on event (tDB, ON). E\N\ releases high if: a) K\I\L\L\ is not driven high within 512ms of the initial valid (See Datasheet)", 7 OFFT "Additional Adjustable Turn-Off Time Input (tOFFT). A capacitor to ground determines the additional time (beyond the internal default 32ms, tDB, OFF) that the P\B\ pin must be held low before initiating a powerdown sequence (See Datasheet)", 8 ~{KILL} (in) "K\I\L\L\ Input. Forcing K\I\L\L\ low releases the enable output. During system turn-on, this pin is blanked by a 512ms internal timer (tK\I\L\L\, ON BLANK) to allow the system to pull K\I\L\L\ high. This pin has an accurate (See Datasheet)"

## LTC2951ITS8-1#TRMPBF
designator U?
Pushbutton On / Off  Controller, 8-pin SOT23 (TS8-8), -40 to 85 degC, Pb-Free, Mini Tape and Reel; Manufacturer: Linear Technology; PartNumber: LTC2951ITS8-1#TRMPBF; Number of Supplies(#): 1; DatasheetVersion: Rev. B; PackageVersion: Rev. A, 08/2010; PackageReference: TS8-8; PackageDescription: 8-Pin Plastic TSOT-23, Body 2.9 x 1.63 mm, Pitch 0.65 mm; Supplier 1: Digi-Key; Supplier Part Number 1: LTC2951ITS8-1#TRMPBFTR-ND; Supplier 2: Digi-Key; Supplier Part Number 2: LTC2951ITS8-1#TRMPBFCT-ND; Supplier 3: Digi-Key; Supplier Part Number 3: LTC2951ITS8-1#TRMPBFDKR-ND; Supplier 4: Farnell; Supplier Part Number 4: 1673548; Supplier 5: Farnell; Supplier Part Number 5: 1668779; Supplier 6: Newark; Supplier Part Number 6: 12P6563; Packing: Mini Tape and Reel; RoHS: TRUE; Mounting Technology: Surface Mount; Code_JEDEC: MO-193; ComponentLink1Description: Manufacturer URL; ComponentLink1URL: http://www.linear.com/; ComponentLink2Description: Datasheet; ComponentLink2URL: http://cds.linear.com/docs/en/datasheet/295112fb.pdf; ComponentLink3Description: Package Specification; ComponentLink3URL: http://cds.linear.com/docs/en/packaging/SOT_8_05-08-1637.pdf
footprint LT-TS8-8-TSOT-23_V (SOT23, 8-Leads, Body 2.9x1.75mm, Pitch 0.65mm)
pins: 1 VIN (power) "Power Supply Input: 2.7V to 26.4V.", 2 ~{PB} (in) "Pushbutton Input. Connecting P\B\ to ground through a momentary switch provides on/off control via the EN/E\N\ pin. An internal 100k pull-up resistor connects to an internal 1.9V bias voltage. The rugged P\B\ input can be (See Datasheet)", 3 KILLT "Additional, Adjustable K\I\L\L\ Turn-Off Delay Input (tK\I\L\L\, OFF DELAY, ADDITIONAL). A capacitor to ground provides additional delay time (beyond the internal default 128ms, tK\I\L\L\, OFF DELAY) from I\N\T\ falling to (See Datasheet)", 4 GND (power) "Device Ground.", 5 ~{INT} (oc) "Open-Drain Interrupt Output. After a pushbutton turn-off event is detected (tDB, OFF + tOFFT), the LTC2951 interrupts the system (uP) by bringing the I\N\T\ pin low. Once the system finishes its power-down and housekeeping (See Datasheet)", 6 EN (oc) "Open-Drain Enable Output. This pin is intended to enable system power. E\N\ is asserted low after a valid P\B\ turn-on event (tDB, ON). E\N\ releases high if: a) K\I\L\L\ is not driven high within 512ms of the initial valid (See Datasheet)", 7 OFFT "Additional Adjustable Turn-Off Time Input (tOFFT). A capacitor to ground determines the additional time (beyond the internal default 32ms, tDB, OFF) that the P\B\ pin must be held low before initiating a powerdown sequence (See Datasheet)", 8 ~{KILL} (in) "K\I\L\L\ Input. Forcing K\I\L\L\ low releases the enable output. During system turn-on, this pin is blanked by a 512ms internal timer (tK\I\L\L\, ON BLANK) to allow the system to pull K\I\L\L\ high. This pin has an accurate (See Datasheet)"

## LTC2951ITS8-1#TRPBF
designator U?
Pushbutton On / Off  Controller, 8-pin SOT23 (TS8-8), -40 to 85 degC, Pb-Free, Tape and Reel; Manufacturer: Linear Technology; PartNumber: LTC2951ITS8-1#TRPBF; Number of Supplies(#): 1; DatasheetVersion: Rev. B; PackageVersion: Rev. A, 08/2010; PackageReference: TS8-8; PackageDescription: 8-Pin Plastic TSOT-23, Body 2.9 x 1.63 mm, Pitch 0.65 mm; Supplier 1: Digi-Key; Supplier Part Number 1: LTC2951ITS8-1#TRPBF-ND; Packing: Tape and Reel; RoHS: TRUE; Mounting Technology: Surface Mount; Code_JEDEC: MO-193; ComponentLink1Description: Manufacturer URL; ComponentLink1URL: http://www.linear.com/; ComponentLink2Description: Datasheet; ComponentLink2URL: http://cds.linear.com/docs/en/datasheet/295112fb.pdf; ComponentLink3Description: Package Specification; ComponentLink3URL: http://cds.linear.com/docs/en/packaging/SOT_8_05-08-1637.pdf
footprint LT-TS8-8-TSOT-23_V (SOT23, 8-Leads, Body 2.9x1.75mm, Pitch 0.65mm)
pins: 1 VIN (power) "Power Supply Input: 2.7V to 26.4V.", 2 ~{PB} (in) "Pushbutton Input. Connecting P\B\ to ground through a momentary switch provides on/off control via the EN/E\N\ pin. An internal 100k pull-up resistor connects to an internal 1.9V bias voltage. The rugged P\B\ input can be (See Datasheet)", 3 KILLT "Additional, Adjustable K\I\L\L\ Turn-Off Delay Input (tK\I\L\L\, OFF DELAY, ADDITIONAL). A capacitor to ground provides additional delay time (beyond the internal default 128ms, tK\I\L\L\, OFF DELAY) from I\N\T\ falling to (See Datasheet)", 4 GND (power) "Device Ground.", 5 ~{INT} (oc) "Open-Drain Interrupt Output. After a pushbutton turn-off event is detected (tDB, OFF + tOFFT), the LTC2951 interrupts the system (uP) by bringing the I\N\T\ pin low. Once the system finishes its power-down and housekeeping (See Datasheet)", 6 EN (oc) "Open-Drain Enable Output. This pin is intended to enable system power. E\N\ is asserted low after a valid P\B\ turn-on event (tDB, ON). E\N\ releases high if: a) K\I\L\L\ is not driven high within 512ms of the initial valid (See Datasheet)", 7 OFFT "Additional Adjustable Turn-Off Time Input (tOFFT). A capacitor to ground determines the additional time (beyond the internal default 32ms, tDB, OFF) that the P\B\ pin must be held low before initiating a powerdown sequence (See Datasheet)", 8 ~{KILL} (in) "K\I\L\L\ Input. Forcing K\I\L\L\ low releases the enable output. During system turn-on, this pin is blanked by a 512ms internal timer (tK\I\L\L\, ON BLANK) to allow the system to pull K\I\L\L\ high. This pin has an accurate (See Datasheet)"

## LTC2951ITS8-2
designator U?
Pushbutton On / Off  Controller, 8-pin SOT23 (TS8-8), -40 to 85 degC; Manufacturer: Linear Technology; PartNumber: LTC2951ITS8-2; Number of Supplies(#): 1; DatasheetVersion: Rev. B; PackageVersion: Rev. A, 08/2010; PackageReference: TS8-8; PackageDescription: 8-Pin Plastic TSOT-23, Body 2.9 x 1.63 mm, Pitch 0.65 mm; RoHS: FALSE; Mounting Technology: Surface Mount; Code_JEDEC: MO-193; ComponentLink1Description: Manufacturer URL; ComponentLink1URL: http://www.linear.com/; ComponentLink2Description: Datasheet; ComponentLink2URL: http://cds.linear.com/docs/en/datasheet/295112fb.pdf; ComponentLink3Description: Package Specification; ComponentLink3URL: http://cds.linear.com/docs/en/packaging/SOT_8_05-08-1637.pdf
footprint LT-TS8-8-TSOT-23_V (SOT23, 8-Leads, Body 2.9x1.75mm, Pitch 0.65mm)
pins: 1 VIN (power) "Power Supply Input: 2.7V to 26.4V.", 2 ~{PB} (in) "Pushbutton Input. Connecting P\B\ to ground through a momentary switch provides on/off control via the EN/E\N\ pin. An internal 100k pull-up resistor connects to an internal 1.9V bias voltage. The rugged P\B\ input can be (See Datasheet)", 3 KILLT "Additional, Adjustable K\I\L\L\ Turn-Off Delay Input (tK\I\L\L\, OFF DELAY, ADDITIONAL). A capacitor to ground provides additional delay time (beyond the internal default 128ms, tK\I\L\L\, OFF DELAY) from I\N\T\ falling to (See Datasheet)", 4 GND (power) "Device Ground.", 5 ~{INT} (oc) "Open-Drain Interrupt Output. After a pushbutton turn-off event is detected (tDB, OFF + tOFFT), the LTC2951 interrupts the system (uP) by bringing the I\N\T\ pin low. Once the system finishes its power-down and housekeeping (See Datasheet)", 6 ~{EN} (oc) "Open-Drain Enable Output. This pin is intended to enable system power. E\N\ is asserted low after a valid P\B\ turn-on event (tDB, ON). E\N\ releases high if: a) K\I\L\L\ is not driven high within 512ms of the initial valid (See Datasheet)", 7 OFFT "Additional Adjustable Turn-Off Time Input (tOFFT). A capacitor to ground determines the additional time (beyond the internal default 32ms, tDB, OFF) that the P\B\ pin must be held low before initiating a powerdown sequence (See Datasheet)", 8 ~{KILL} (in) "K\I\L\L\ Input. Forcing K\I\L\L\ low releases the enable output. During system turn-on, this pin is blanked by a 512ms internal timer (tK\I\L\L\, ON BLANK) to allow the system to pull K\I\L\L\ high. This pin has an accurate (See Datasheet)"